# Altium footprint library CMod5_1.PcbLib: 117 footprints (part 2 of 8)
Each footprint in its own frame and in the unit in brackets; x right, y up, seen from the top. Pads: shape width x height; smd on the part's side, far side on the other; paste and mask are expansions set on the pad; w line width, h text height; cw(c..) or ccw(c..) is an arc to the next point about the centre after c.
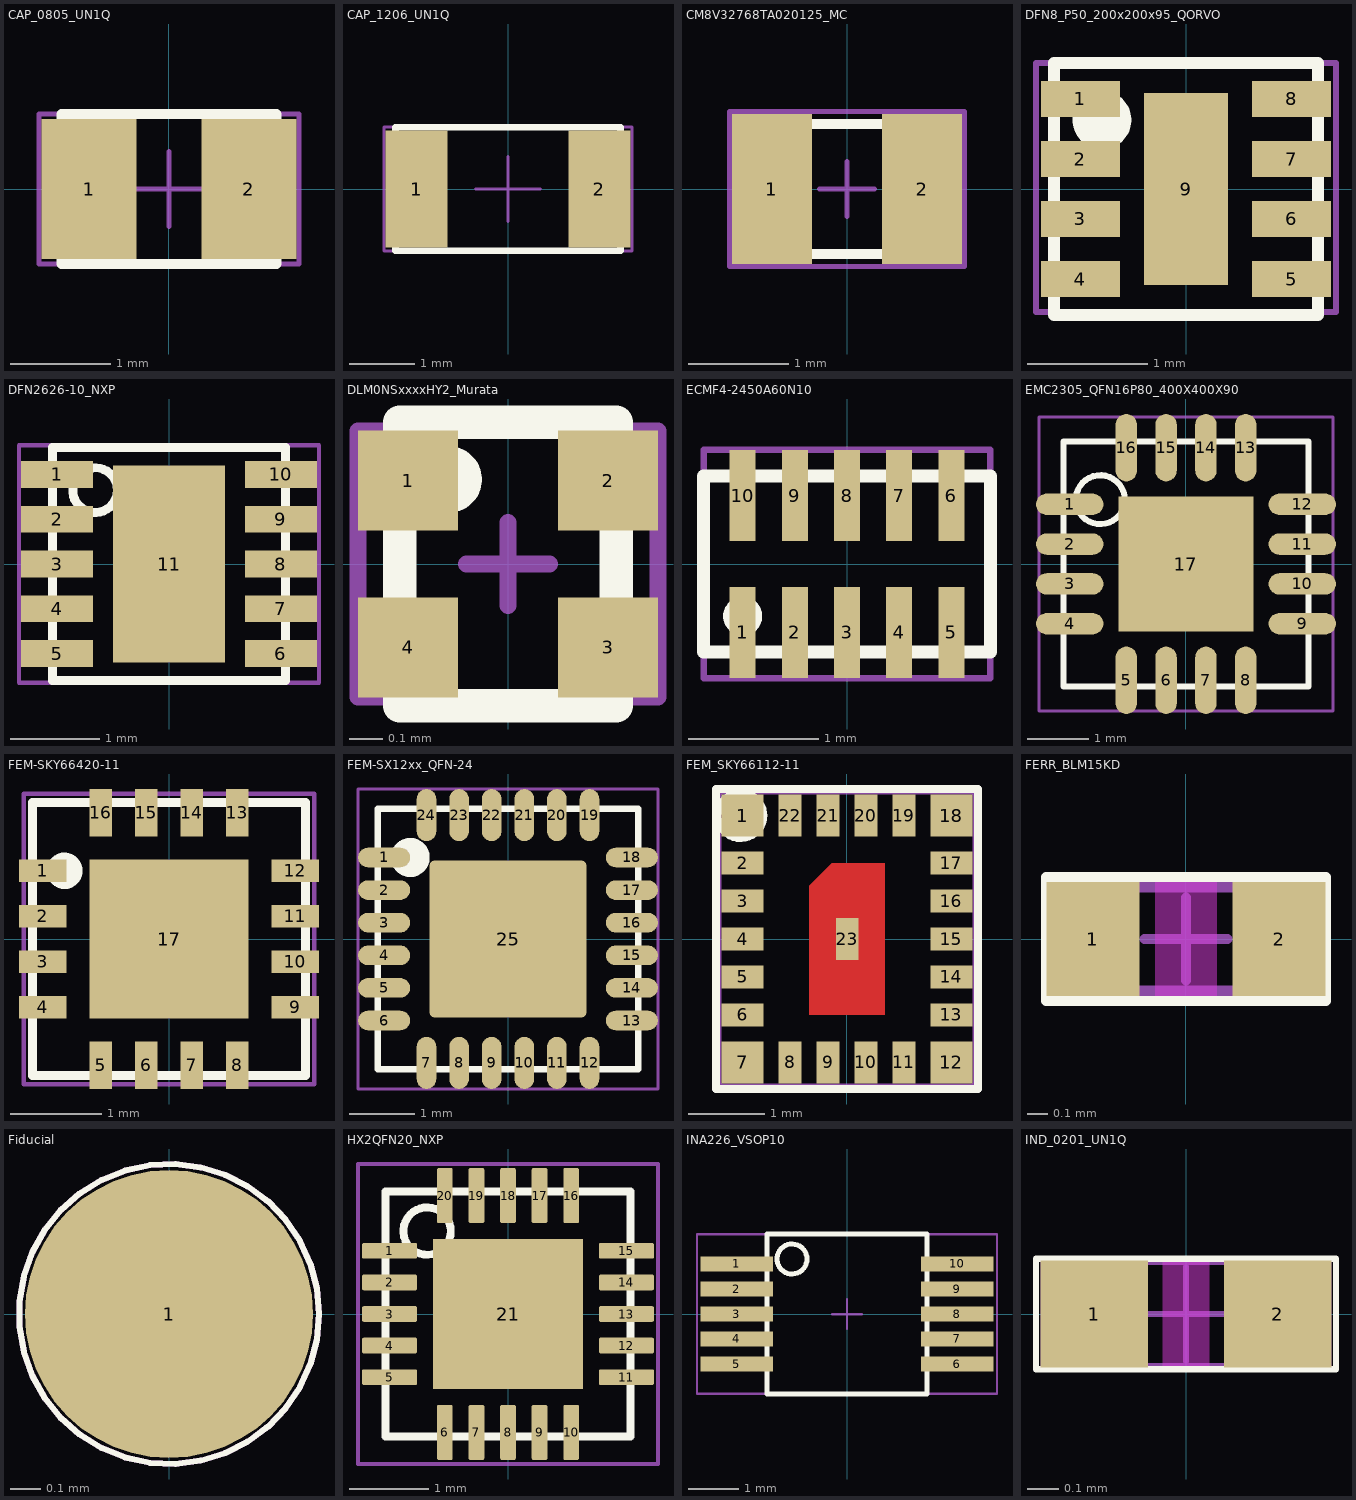
[diagram p1: the footprints below, top view; thin cyan lines are the x and y axes]

## CAP_0805_UN1Q [mm] "Chip Capacitor 0805"
height 1.45
pads (2):
  rect 0.95x1.4 smd paste+0 mask+0.05: 1(-0.8,0) 2(0.8,0)
Top Overlay:
  lines w0.1: -1.075,-0.75 1.075,-0.75 1.075,0.75 -1.075,0.75 -1.075,-0.75
Top Courtyard:
  lines w0.05: -0.375,0 0.375,0 ; 0,-0.375 0,0.375 ; -1.3,-0.75 -1.3,0.75 1.3,0.75 1.3,-0.75 -1.3,-0.75
Top Designator:
3D body "CAP_0805_H145W14.step": height 1.45, standoff 0, extent -1,-0.7 1,0.7

## CAP_1206_UN1Q [mm] "Chip Capacitor 1206"
height 1.9
pads (2):
  rect 0.95x1.8 smd paste+0 mask+0.05: 1(-1.4,0) 2(1.4,0)
Top Overlay:
  lines w0.1: -1.725,-0.95 -1.725,0.95 1.725,0.95 1.725,-0.95 -1.725,-0.95
Top Courtyard:
  lines w0.05: -0.5,0 0.5,0 ; 0,-0.5 0,0.5 ; -1.9,-0.95 -1.9,0.95 1.9,0.95 1.9,-0.95 -1.9,-0.95
Top Designator:
3D body "CAP_1206_H19W18.step": height 1.9, standoff 0, extent -1.6,-0.9 1.6,0.9

## CM8V32768TA020125_MC [mm] "2.0 x 1.2 x 0.60 mm"
height 0.6
pads (2):
  rect 0.8x1.5 smd paste+0 mask+0.06: 1(-0.75,0) 2(0.75,0)
Top Overlay:
  lines w0.1: -1.05,-0.65 1.025,-0.65 1.025,0.65 -1.05,0.65 -1.05,-0.65
Top Courtyard:
  lines w0.05: -0.275,0 0.275,0 ; 0,-0.275 0,0.275 ; -1.175,-0.775 1.175,-0.775 1.175,0.775 -1.175,0.775 -1.175,-0.775
3D body "CM8V-T1A.stp": height 0.63, standoff 0.03, extent -1,-0.6 1,0.6

## DFN8_P50_200x200x95_QORVO [mm] "DFN8 2x2mm Pitch 0.5 mm"
height 0.95
pads (9):
  rect 0.66x0.3 smd mask+0.05: 1(-0.88,0.75) 2(-0.88,0.25) 3(-0.88,-0.25) 4(-0.88,-0.75) 5(0.88,-0.75) 6(0.88,-0.25) 7(0.88,0.25) 8(0.88,0.75)
  rect 0.7x1.6 smd paste+0 mask+0.05: 9(0,0)
Top Overlay:
  circle w0.25: c-0.7,0.575 r0.12
  lines w0.1: -1.1,-1.05 1.1,-1.05 1.1,1.05 -1.1,1.05 -1.1,-1.05
Top Courtyard:
  lines w0.05: -1.25,-1.025 1.25,-1.025 1.25,1.05 -1.25,1.05 -1.25,-1.025
3D body: height 0.94, standoff 0.5, extent -0.925,0.363 -0.075,0.938
3D body "QPL9095SR.stp": height 0.95, standoff 0, extent -1.05,-1 1.05,1

## DFN2626-10_NXP [mm] "DFN2626 10 pin pitch 0.5"
height 0.5
pads (11):
  rect 0.8x0.3 smd paste+0 mask+0.05: 1(-1.25,1) 2(-1.25,0.5) 3(-1.25,0) 4(-1.25,-0.5) 5(-1.25,-1) 6(1.25,-1) 7(1.25,-0.5) 8(1.25,0) 9(1.25,0.5) 10(1.25,1)
  rect 1.25x2.2 smd paste-2539.97 mask+0.06: 11(0,0)
Top Overlay:
  circle w0.1: c-0.825,0.825 r0.25
  lines w0.1: -1.3,-1.3 1.3,-1.3 1.3,1.3 -1.3,1.3 -1.3,-1.3
Top Paste:
  region: -0.2,-0.4 -0.2,0.4 0.2,0.4 0.2,-0.4
Top Courtyard:
  lines w0.05: -0.275,0 0.275,0 ; 0,-0.275 0,0.275 ; -1.675,-1.325 1.675,-1.325 1.675,1.325 -1.675,1.325 -1.675,-1.325
3D body: height 0.49, standoff 0.4, extent -1.15,0.75 -0.75,1.15
3D body "PCF85063ATL_1,118.stp": height 0.5, standoff 0, extent -1.35,-1.3 1.35,1.3

## DLM0NSxxxxHY2_Murata [mm] "SMD 0.85x0.65x0.50mm"
height 0.5
pads (4):
  rect 0.3x0.3 smd paste+0 mask+0.05: 1(-0.3,0.25) 2(0.3,0.25) 3(0.3,-0.25) 4(-0.3,-0.25)
Top Overlay:
  circle w0.1: c-0.178,0.254 r0.05
  lines w0.1: -0.325,-0.425 0.325,-0.425 0.325,0.425 -0.325,0.425 -0.325,-0.425
Top Courtyard:
  lines w0.05: -0.125,0 0.125,0 ; 0,-0.125 0,0.125 ; -0.45,-0.4 -0.45,0.4 0.45,0.4 0.45,-0.4 -0.45,-0.4
Top Designator:
3D body "step_temp.STEP": height 0.5, standoff 0, extent -0.325,-0.425 0.325,0.425

## ECMF4-2450A60N10 [mm]
height 0.5
pads (10):
  rect 0.2x0.7 smd paste+0 mask+0.05: 1(-0.8,-0.525) 2(-0.4,-0.525) 3(0,-0.525) 4(0.4,-0.525) 5(0.8,-0.525) 6(0.8,0.525) 7(0.4,0.525) 8(0,0.525) 9(-0.4,0.525) 10(-0.8,0.525)
Top Overlay:
  circle w0.15: c-0.8,-0.4 r0.075
  lines w0.1: -1.1,-0.675 1.1,-0.675 1.1,0.675 -1.1,0.675 -1.1,-0.675
Top Courtyard:
  lines w0.05: -1.1,-0.875 -1.1,0.875 1.1,0.875 1.1,-0.875 -1.1,-0.875
3D body "ST_QFN40P220X135X45-10L.step": height 0.43, standoff -0.02, extent -1.1,-0.676 1.1,0.676

## EMC2305_QFN16P80_400X400X90 [mm] "QFPN16 pitc 0.8"
height 0.9
pads (17):
  oval 1.1x0.35 smd paste+0 mask+0.05: 1(-1.9,0.975) 2(-1.9,0.325) 3(-1.9,-0.325) 4(-1.9,-0.975) 9(1.9,-0.975) 10(1.9,-0.325) 11(1.9,0.325) 12(1.9,0.975)
  oval 0.35x1.1 smd paste+0 mask+0.05: 5(-0.975,-1.9) 6(-0.325,-1.9) 7(0.325,-1.9) 8(0.975,-1.9) 13(0.975,1.9) 14(0.325,1.9) 15(-0.325,1.9) 16(-0.975,1.9)
  rect 2.2x2.2 smd paste-0.2 mask+0.07: 17(0,0)
Top Overlay:
  circle w0.1: c-1.4,1.05 r0.4
  lines w0.1: -2,-2 2,-2 2,2 -2,2 -2,-2
Top Courtyard:
  lines w0.05: -2.4,-2.4 -2.4,2.4 2.4,2.4 2.4,-2.4 -2.4,-2.4
3D body: height 0.89, standoff 0.8, extent -1.7,0.725 -1.1,1.325
3D body "QFN16_4x4MC_MCH.step": height 1, standoff 0, extent -2,-2 2,2

## FEM-SKY66420-11 [mm] "860MHz-930MHZ Front-End Module, +27dBM"
height 0.75
pads (17):
  rrect5% 0.525x0.25 smd mask+0.05: 1(-1.388,0.75) 2(-1.388,0.25) 3(-1.388,-0.25) 4(-1.388,-0.75) 9(1.388,-0.75) 10(1.388,-0.25) 11(1.388,0.25) 12(1.388,0.75)
  rrect5% 0.25x0.525 smd mask+0.05: 5(-0.75,-1.388) 6(-0.25,-1.388) 7(0.25,-1.388) 8(0.75,-1.388) 13(0.75,1.388) 14(0.25,1.388) 15(-0.25,1.388) 16(-0.75,1.388)
  rrect1% 1.75x1.75 smd paste-5 mask-5: 17(0,0)
Top Overlay:
  circle w0.2: c-1.15,0.75 r0.1
  lines w0.1: -1.5,-1.5 1.5,-1.5 1.5,1.5 -1.5,1.5 -1.5,-1.5
Top Paste:
  region: -0.875,0.875 -0.875,0.375 -0.375,0.375 -0.375,0.875
  region: -0.25,0.875 -0.25,0.375 0.25,0.375 0.25,0.875
  region: 0.375,0.875 0.375,0.375 0.875,0.375 0.875,0.875
  region: -0.875,0.25 -0.875,-0.25 -0.375,-0.25 -0.375,0.25
  region: -0.25,0.25 -0.25,-0.25 0.25,-0.25 0.25,0.25
  region: 0.375,0.25 0.375,-0.25 0.875,-0.25 0.875,0.25
  region: -0.875,-0.375 -0.875,-0.875 -0.375,-0.875 -0.375,-0.375
  region: -0.25,-0.375 -0.25,-0.875 0.25,-0.875 0.25,-0.375
  region: 0.375,-0.375 0.375,-0.875 0.875,-0.875 0.875,-0.375
Top Solder:
  rectangle: -0.925,0.35 -0.35,0.925
  rectangle: -0.275,0.35 0.275,0.925
  rectangle: 0.35,0.35 0.925,0.925
  rectangle: 0.35,-0.275 0.925,0.275
  rectangle: -0.275,-0.275 0.275,0.275
  rectangle: -0.925,-0.275 -0.35,0.275
  rectangle: 0.35,-0.925 0.925,-0.35
  rectangle: -0.275,-0.925 0.275,-0.35
  rectangle: -0.925,-0.925 -0.35,-0.35
Top Courtyard:
  lines w0.05: -1.6,-1.6 -1.6,1.6 1.6,1.6 1.6,-1.6 -1.6,-1.6
Top Designator:
3D body "SKY66420-11.stp": height 0.81, standoff 0.01, extent -1.5,-1.5 1.5,1.5

## FEM-SX12xx_QFN-24 [mm] "4.0 x 4.0 x 0.9mm"
height 0.9
pads (25):
  oval 0.8x0.3 smd mask+0.05: 1(-1.9,1.25) 2(-1.9,0.75) 3(-1.9,0.25) 4(-1.9,-0.25) 5(-1.9,-0.75) 6(-1.9,-1.25) 13(1.9,-1.25) 14(1.9,-0.75) 15(1.9,-0.25) 16(1.9,0.25) 17(1.9,0.75) 18(1.9,1.25)
  oval 0.3x0.8 smd mask+0.05: 7(-1.25,-1.9) 8(-0.75,-1.9) 9(-0.25,-1.9) 10(0.25,-1.9) 11(0.75,-1.9) 12(1.25,-1.9) 19(1.25,1.9) 20(0.75,1.9) 21(0.25,1.9) 22(-0.25,1.9) 23(-0.75,1.9) 24(-1.25,1.9)
  rrect5% 2.4x2.4 smd paste-2.5 mask+0.05: 25(0,0)
Top Overlay:
  circle w0.3: c-1.5,1.25 r0.15
  lines w0.1: -2,-2 2,-2 2,2 -2,2 -2,-2
Top Paste:
  region: -1.15,-1.15 -0.05,-1.15 -0.05,-0.05 -1.15,-0.05
  region: -1.15,0.05 -0.05,0.05 -0.05,1.15 -1.15,1.15
  region: 0.05,0.05 1.15,0.05 1.15,1.15 0.05,1.15
  region: 0.05,-1.15 1.15,-1.15 1.15,-0.05 0.05,-0.05
Top Courtyard:
  lines w0.05: -0.2,0 0.2,0 ; 0,-0.2 0,0.2 ; -2.299,-2.299 2.3,-2.299 2.3,2.3 -2.299,2.3 -2.299,-2.299
Top Designator:
3D body: height 1, standoff 0.05, extent -2,-2 2,2
3D body: height 1.01, standoff 1, extent -1.75,1 -1.25,1.5

## FEM_SKY66112-11 [mm] "Skyworks Wifi 2.45GHz FEM"
height 1
pads (23):
  rect 0.55x0.55 smd paste+0 mask+0.05: 1(-1.375,1.625) 7(-1.375,-1.625) 12(1.375,-1.625) 18(1.375,1.625)
  rect 0.55x0.3 smd paste+0 mask+0.05: 2(-1.375,1) 3(-1.375,0.5) 4(-1.375,0) 5(-1.375,-0.5) 6(-1.375,-1) 13(1.375,-1) 14(1.375,-0.5) 15(1.375,0) 16(1.375,0.5) 17(1.375,1)
  rect 0.3x0.55 smd paste+0 mask+0.05: 8(-0.75,-1.625) 9(-0.25,-1.625) 10(0.25,-1.625) 11(0.75,-1.625) 19(0.75,1.625) 20(0.25,1.625) 21(-0.25,1.625) 22(-0.75,1.625) 23(0.003,0)
Top Layer:
  region: -0.5,0.703 -0.203,1 0.499,1 0.5,1 0.5,-1 -0.5,-1
Top Overlay:
  lines w0.1: -1.101,1.654 ccw(c-1.4,1.627) -1.1,1.627 ; -1.725,-1.975 1.725,-1.975 1.725,1.975 -1.725,1.975 -1.725,-1.975
Top Paste:
  rectangle: -0.5,-1 0.5,-0.15
  region: -0.5,0.15 0.5,0.15 0.5,1 -0.203,1 -0.5,0.703
Top Courtyard:
  lines w0.05: -0.197,0 0.203,0 ; 0.003,-0.2 0.003,0.2 ; -1.675,-1.925 -1.675,1.925 1.675,1.925 1.675,-1.925 -1.675,-1.925
Top Designator:
3D body: height 1.01, standoff 1, extent -1.45,1.2 -0.95,1.7
3D body: height 1, standoff 0, extent -1.5,-1.75 1.5,1.75

## FERR_BLM15KD [mm] "Chip Resistor, Body 1.0x0.5mm, IPC High Density"
height 0.55
pads (2):
  rect 0.45x0.55 smd mask+0.05: 1(-0.45,0) 2(0.45,0)
Top Layer keep-out:
  rectangle: -0.15,-0.275 0.15,0.275
Top Overlay:
  lines w0.05: -0.675,-0.3 0.675,-0.3 0.675,0.3 -0.675,0.3 -0.675,-0.3
Top 3D Body:
  lines w0.05: -0.525,-0.25 0.525,-0.25 0.525,0.25 -0.525,0.25 -0.525,-0.25
Top Courtyard:
  lines w0.02: -0.675,-0.275 0.675,-0.275 0.675,0.275 -0.675,0.275 -0.675,-0.275
  lines w0.05: -0.2,0 0.2,0 ; 0,-0.2 0,0.2
Top Designator:
3D body: height 0.55, standoff 0, extent -0.65,-0.275 0.65,0.275

## Fiducial [mm] "Fiducial 0.98 mm"
height 1.42
pads (1):
  round 0.96 smd paste-0.5 mask+0.8: 1(0,0)
Top Overlay:
  circle w0.02: c0,0 r0.5
Top Courtyard:
  circle w0.02: c0,0 r0.5
3D body: height 0.02, standoff 0, extent -0.476,-0.479 0.48,0.479

## HX2QFN20_NXP [mm] "HX2QFN20 NXP"
height 0.5
pads (21):
  rrect25% 0.7x0.2 smd paste+0 mask+0.05: 1(-1.5,0.8) 2(-1.5,0.4) 3(-1.5,0) 4(-1.5,-0.4) 5(-1.5,-0.8) 11(1.5,-0.8) 12(1.5,-0.4) 13(1.5,0) 14(1.5,0.4) 15(1.5,0.8)
  rrect25% 0.2x0.7 smd paste+0 mask+0.05: 6(-0.8,-1.5) 7(-0.4,-1.5) 8(0,-1.5) 9(0.4,-1.5) 10(0.8,-1.5) 16(0.8,1.5) 17(0.4,1.5) 18(0,1.5) 19(-0.4,1.5) 20(-0.8,1.5)
  rect 1.9x1.9 smd paste-0.2 mask+0.05: 21(0,0)
Top Overlay:
  circle w0.1: c-1.025,1.05 r0.3
  lines w0.1: -1.55,-1.55 -1.55,1.55 1.55,1.55 1.55,-1.55 -1.55,-1.55
Top Courtyard:
  lines w0.05: -1.9,-1.9 1.9,-1.9 1.9,1.9 -1.9,1.9 -1.9,-1.9
Top Designator:
3D body: height 0.34, standoff 0.33, extent -1.3,1.1 -1.1,1.3
3D body "SE050.STEP": height 0.33, standoff 0, extent -1.5,-1.5 1.5,1.5

## INA226_VSOP10 [mm] "TI VSOP-10 for INA226/230"
height 1.1
pads (10):
  rect 1.45x0.3 smd paste+0 mask+0.05: 1(-2.2,1) 2(-2.2,0.5) 3(-2.2,0) 4(-2.2,-0.5) 5(-2.2,-1) 6(2.2,-1) 7(2.2,-0.5) 8(2.2,0) 9(2.2,0.5) 10(2.2,1)
Top Overlay:
  circle w0.1: c-1.1,1.1 r0.3
  lines w0.1: -1.6,-1.6 1.6,-1.6 1.6,1.6 -1.6,1.6 -1.6,-1.6
Top Courtyard:
  lines w0.05: -0.3,0 0.3,0 ; 0,-0.3 0,0.3 ; -3,-1.6 -3,1.6 3,1.6 3,-1.6 -3,-1.6
Top Designator:
3D body "INA226AIDGSR.STEP": height 1.1, standoff 0, extent -2.45,-1.5 2.45,1.5

## IND_0201_UN1Q [mm] "Chip Resistor, 0.6x0.3mm, IPC High Density"
height 0.3
pads (2):
  rect 0.34x0.34 smd mask+0.05: 1(-0.29,0) 2(0.29,0)
Top Layer keep-out:
  rectangle: -0.075,-0.165 0.075,0.165
Top Overlay:
  lines w0.02: -0.475,-0.175 -0.475,0.175 0.475,0.175 0.475,-0.175 -0.475,-0.175
Top Courtyard:
  lines w0.02: -0.15,0 0.15,0 ; 0,-0.15 0,0.15 ; -0.45,-0.165 -0.45,0.165 0.45,0.165 0.45,-0.165 -0.45,-0.165
Top Designator:
3D body "AIMC-0201-10NJ-T.STEP": height 0.3, standoff 0, extent -0.3,-0.15 0.3,0.15